# EAGLE library part 693010020611 (library MicroUSB)
WR-CRD SIM CARD CONNECTOR HEADER SHIELDED 6PINS
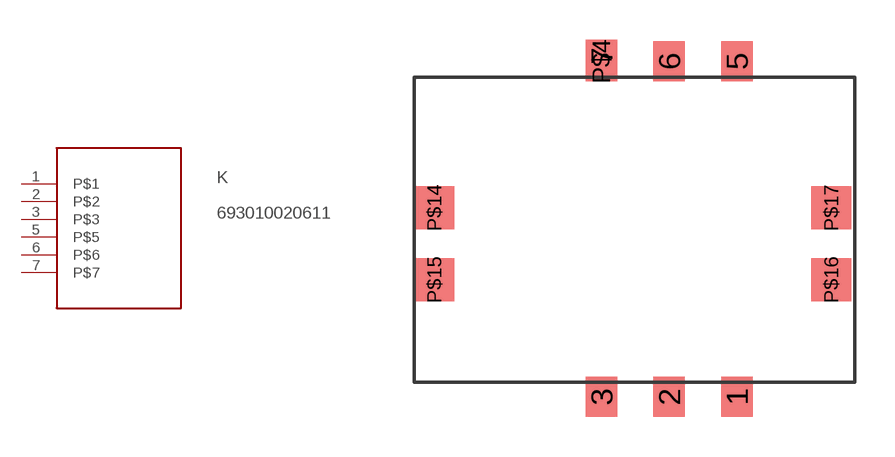
[diagram p30: symbol with the pads of 693010020611; footprint 693010020611]

Designator prefix K

## 693010020611  [693010020611]
1  P$1
2  P$2
3  P$3
5  P$5
6  P$6
7  P$7

## Footprint 693010020611 (pad centres in mm)
WR-CRD SIM CARD CONNECTOR HEADER SHIELDED 6PINS
smd 1.18 x 1.5: 1 5.08,0; 2 2.54,0; 3 0,0; 5 5.08,12.6; 6 2.54,12.6; P$4 0,12.6
smd 1.18 x 1.2: 7 0,12.8
smd 1.5 x 1.6: P$14 -6.27,7.1; P$15 -6.27,4.4; P$16 8.63,4.4; P$17 8.63,7.1